# Altium schematic symbol library IRF510.SchLib: 1 symbol
Pins are listed as number, name and electrical type; pins without a type are passive.

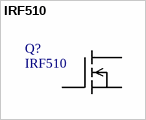
[diagram p0: symbol IRF510]

## IRF510
designator Q?
SnapEDA_Link: https://www.snapeda.com/parts/IRF510/Vishay%20Siliconix/view-part/2759039/?ref=snap; Value: *
footprint *TO220
pins: 1 G, 2 D, 3 S